# Altium footprint library Relays.PcbLib: 1 footprints
Each footprint in its own frame and in the unit in brackets; x right, y up, seen from the top. Pads: shape width x height; smd on the part's side, far side on the other; paste and mask are expansions set on the pad; w line width, h text height; cw(c..) or ccw(c..) is an arc to the next point about the centre after c.
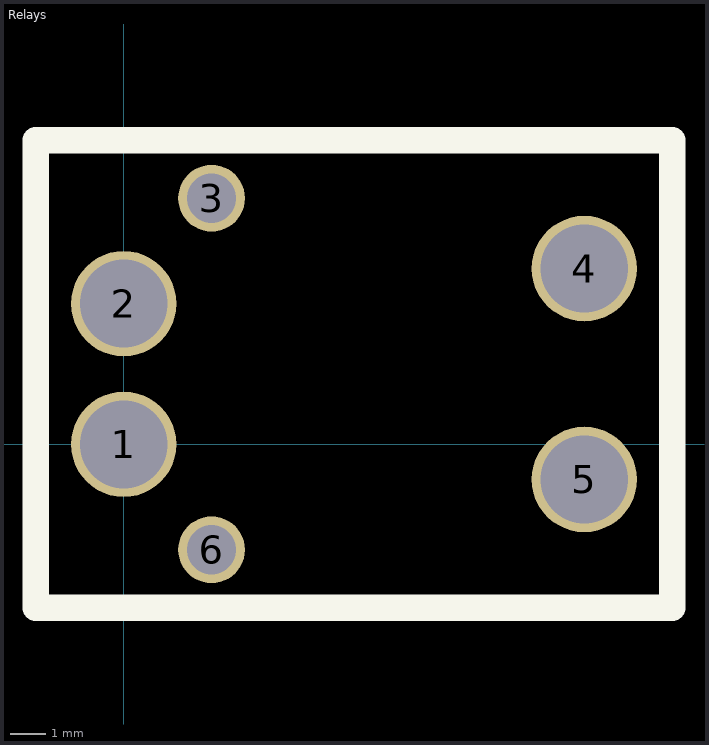
[diagram p0: the footprint, top view; thin cyan lines are the x and y axes]

## Relays [mm]
pads (6):
  round 3 hole 2.5: 1(0,0) 2(0,4) 4(13.1,5) 5(13.1,-1)
  round 1.9 hole 1.4: 3(2.5,7) 6(2.5,-3)
Top Overlay:
  lines w0.75: -2.5,-4.65 -2.5,8.65 15.6,8.65 15.6,6.85 15.6,-4.65 -2.5,-4.65
3D body: height 14, standoff 0, extent -1.35,-4.15 14.35,8.15
3D body: height 3.5, standoff 0, extent 1.731,6.227 3.275,7.774
3D body: height 3.5, standoff 0, extent 1.731,-3.773 3.275,-2.226
3D body: height 3.5, standoff 0, extent -0.35,3.1 0.35,4.9
3D body: height 3.5, standoff 0, extent -0.35,-0.9 0.35,0.9
3D body: height 3.5, standoff 0, extent -0.349,2.751 0.349,3.45
3D body: height 3.5, standoff 0, extent -0.347,-1.249 0.35,-0.55
3D body: height 3.5, standoff 0, extent -0.347,0.551 0.35,1.25
3D body: height 3.5, standoff 0, extent -0.347,4.551 0.35,5.25
3D body: height 3.5, standoff 0, extent 12.7,4.15 13.5,5.85
3D body: height 3.5, standoff 0, extent 12.703,5.451 13.5,6.25
3D body: height 3.5, standoff 0, extent 12.703,3.751 13.5,4.549
3D body: height 3.5, standoff 0, extent 12.703,-2.249 13.5,-1.451
3D body: height 3.5, standoff 0, extent 12.703,-0.549 13.5,0.249
3D body: height 3.5, standoff 0, extent 12.7,-1.85 13.5,-0.15